# Altium footprint library AND_Gate_TI_SN74AUP1T08DCKR_SC70-5.PcbLib: 1 footprints
Each footprint in its own frame and in the unit in brackets; x right, y up, seen from the top. Pads: shape width x height; smd on the part's side, far side on the other; paste and mask are expansions set on the pad; w line width, h text height; cw(c..) or ccw(c..) is an arc to the next point about the centre after c.
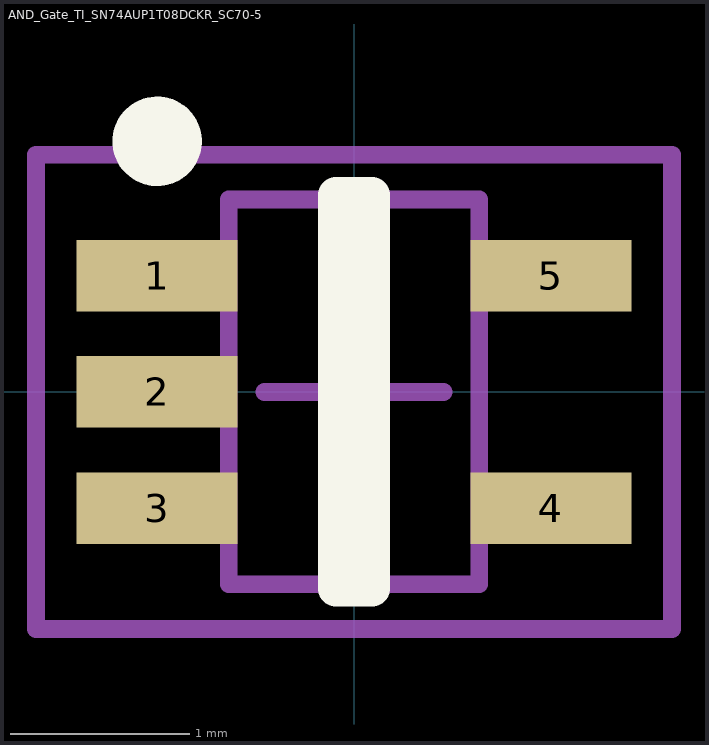
[diagram p0: the footprint, top view; thin cyan lines are the x and y axes]

## AND_Gate_TI_SN74AUP1T08DCKR_SC70-5 [mm]
height 1.1
pads (5):
  rect 0.9x0.4 smd: 1(-1.1,0.65) 2(-1.1,0) 3(-1.1,-0.65) 4(1.1,-0.65) 5(1.1,0.65)
Top Overlay:
  circle w0.25: c-1.1,1.4 r0.125
  lines w0.2: -0.1,-1.1 0.1,-1.1 0.1,1.1 -0.1,1.1 -0.1,-1.1
Mechanical 13:
  lines w0.1: -0.7,-1.075 -0.7,1.075 0.7,1.075 0.7,-1.075 -0.7,-1.075
Mechanical 15:
  lines w0.1: -0.5,0 0.5,0 ; 0,-0.5 0,0.5 ; -1.778,-1.325 -1.778,1.325 1.778,1.325 1.778,-1.325 -1.778,-1.325
3D body: height 1.1, standoff 0, extent -0.7,-1.075 0.7,1.075